# Altium schematic symbol library 3PinMolex.SchLib: 1 symbol
Pins are listed as number, name and electrical type; pins without a type are passive.

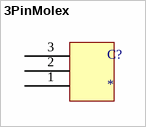
[diagram p0: symbol 3PinMolex]

## 3PinMolex
designator C?
footprint 3PinMolex
pins: 1, 2, 3